# EAGLE library part TLC5926 (library Slice_v1.1)
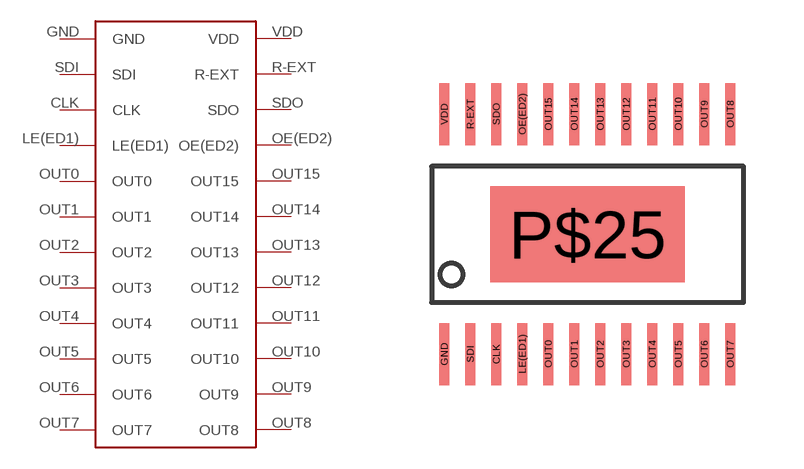
[diagram p0: symbol with the pads of TLC5926; footprint TLC5926]

Designator prefix -

## TLC5926  [TLC5926]
CLK  CLK
GND  GND
LE(ED1)  LE(ED1)
OE(ED2)  OE(ED2)
OUT0  OUT0
OUT1  OUT1
OUT2  OUT2
OUT3  OUT3
OUT4  OUT4
OUT5  OUT5
OUT6  OUT6
OUT7  OUT7
OUT8  OUT8
OUT9  OUT9
OUT10  OUT10
OUT11  OUT11
OUT12  OUT12
OUT13  OUT13
OUT14  OUT14
OUT15  OUT15
R-EXT  R-EXT
SDI  SDI
SDO  SDO
VDD  VDD

## Footprint TLC5926 (pad centres in mm)
smd 0.25 x 1.55: CLK -2.28,-2.99; GND -3.58,-2.99; LE(ED1) -1.63,-2.99; OE(ED2) -1.63,3.01; OUT0 -0.98,-2.99; OUT1 -0.33,-2.99; OUT2 0.32,-2.99; OUT3 0.97,-2.99; OUT4 1.62,-2.99; OUT5 2.27,-2.99; OUT6 2.92,-2.99; OUT7 3.57,-2.99; OUT8 3.57,3.01; OUT9 2.92,3.01; OUT10 2.27,3.01; OUT11 1.62,3.01; OUT12 0.97,3.01; OUT13 0.32,3.01; OUT14 -0.33,3.01; OUT15 -0.98,3.01; R-EXT -2.93,3.01; SDI -2.93,-2.99; SDO -2.28,3.01; VDD -3.58,3.01
smd 4.87 x 2.4: P$25 0,0